# Altium schematic symbol library SCH - POWER - LINEAR VREG - TI TLV741 PDBVR.SchLib: 1 symbol
Pins are listed as number, name and electrical type; pins without a type are passive.

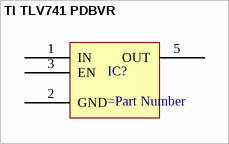
[diagram p0: symbol TI TLV741 PDBVR]

## TI TLV741 PDBVR
designator IC?
pins: 1 IN, 2 GND, 3 EN, 5 OUT